# EAGLE library part PIC16F88-DIP (library 328p_mak3rspace)
8-bit PIC uC RETIRED
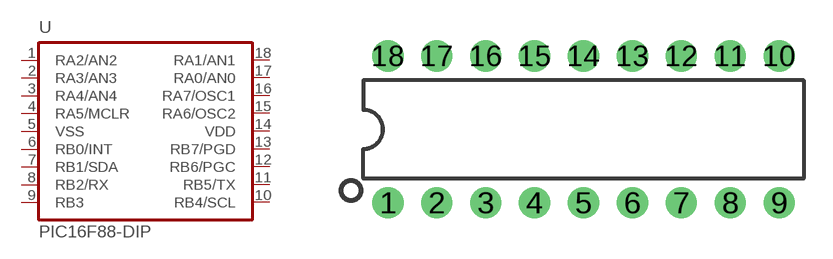
[diagram p25: symbol with the pads of DIP18; footprint DIP18]

Designator prefix -

## PIC16F88-DIP (PROD_ID: IC-08463; VALUE: PIC16F88)  [DIP18]
1  RA2/AN2
2  RA3/AN3
3  RA4/AN4
4  RA5/MCLR  in
5  VSS  pwr
6  RB0/INT
7  RB1/SDA
8  RB2/RX
9  RB3
10  RB4/SCL
11  RB5/TX
12  RB6/PGC
13  RB7/PGD
14  VDD  pwr
15  RA6/OSC2
16  RA7/OSC1
17  RA0/AN0
18  RA1/AN1

## Footprint DIP18 (pad centres in mm)
Dual In Line package type P
drill 0.813 pad 1.626: 1 -10.16,-3.81; 2 -7.62,-3.81; 3 -5.08,-3.81; 4 -2.54,-3.81; 5 0,-3.81; 6 2.54,-3.81; 7 5.08,-3.81; 8 7.62,-3.81; 9 10.16,-3.81; 10 10.16,3.81; 11 7.62,3.81; 12 5.08,3.81; 13 2.54,3.81; 14 0,3.81; 15 -2.54,3.81; 16 -5.08,3.81; 17 -7.62,3.81; 18 -10.16,3.81